# EAGLE library part LM2675LD (library _RoweTel)
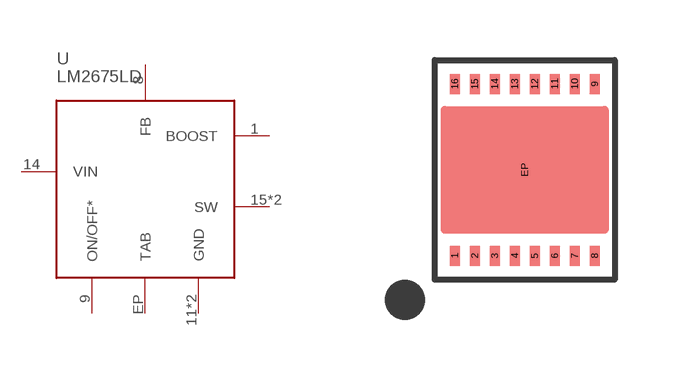
[diagram p21: symbol with the pads of LLP-16-EP; footprint LLP-16-EP]

Designator prefix U

## LM2675LD  [LLP-16-EP]
1  BOOST
8  FB
9  ON/OFF*
11  GND
12  GND
14  VIN
15  SW
16  SW
EP  TAB

## Footprint LLP-16-EP (pad centres in mm)
smd 0.25 x 0.5: 1 -1.75,-2.15; 2 -1.25,-2.15; 3 -0.75,-2.15; 4 -0.25,-2.15; 5 0.25,-2.15; 6 0.75,-2.15; 7 1.25,-2.15; 8 1.75,-2.15; 9 1.75,2.15; 10 1.25,2.15; 11 0.75,2.15; 12 0.25,2.15; 13 -0.25,2.15; 14 -0.75,2.15; 15 -1.25,2.15; 16 -1.75,2.15; EP 0,0